# EAGLE library part CY8C26643-24AI (library cypress_micro)
The CY8C25xxx/26xxx family of Programmable System-on-Chip (PSoC) microcontrollers offers a fast core, Flash program memory and SRAM data memory with configurable analog and digital peripheral blocks in a range of convinient pinouts and memory size on one single chip.
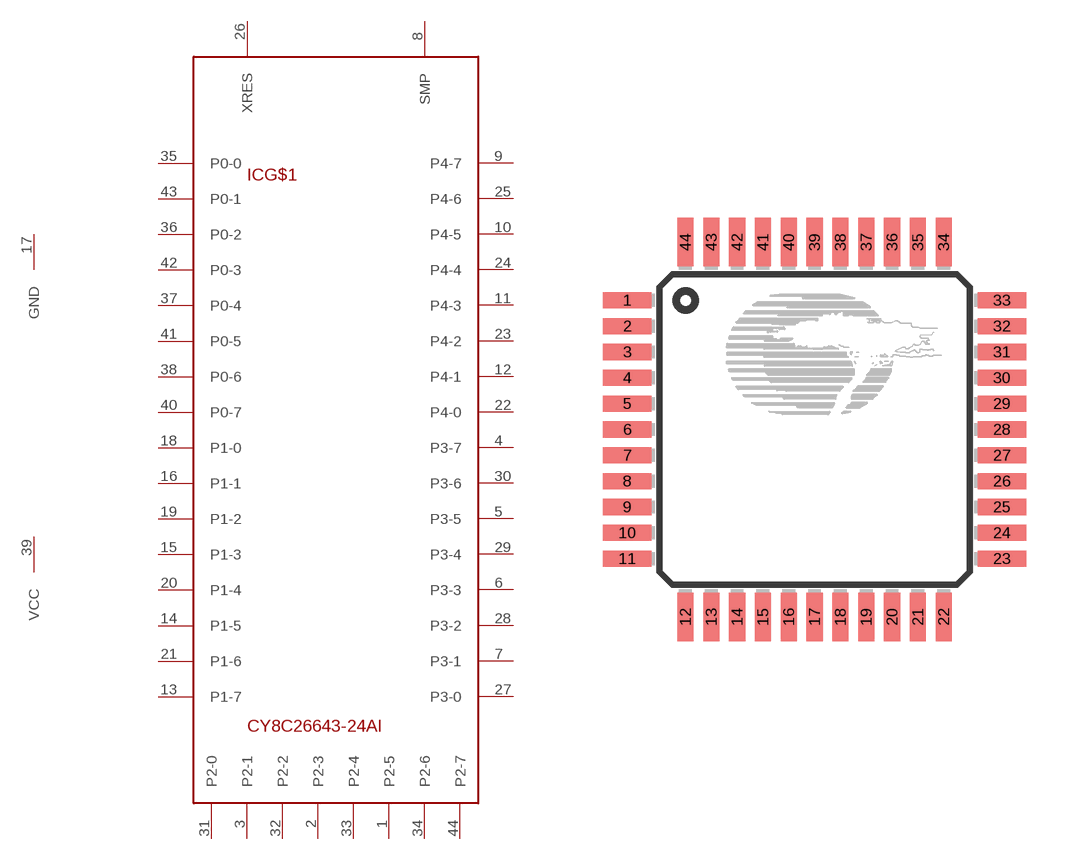
[diagram p4: symbol with the pads of TQFP44; footprint TQFP44]

Designator prefix IC; gates G$1=CY8C26643-AI G$2=GND G$3=VCC

## CY8C26643-24AI  [TQFP44]
1  G$1:P2-5
2  G$1:P2-3
3  G$1:P2-1
4  G$1:P3-7
5  G$1:P3-5
6  G$1:P3-3
7  G$1:P3-1
8  G$1:SMP  out
9  G$1:P4-7
10  G$1:P4-5
11  G$1:P4-3
12  G$1:P4-1
13  G$1:P1-7
14  G$1:P1-5
15  G$1:P1-3
16  G$1:P1-1
17  G$2:GND  pwr
18  G$1:P1-0
19  G$1:P1-2
20  G$1:P1-4
21  G$1:P1-6
22  G$1:P4-0
23  G$1:P4-2
24  G$1:P4-4
25  G$1:P4-6
26  G$1:XRES  in
27  G$1:P3-0
28  G$1:P3-2
29  G$1:P3-4
30  G$1:P3-6
31  G$1:P2-0
32  G$1:P2-2
33  G$1:P2-4
34  G$1:P2-6
35  G$1:P0-0
36  G$1:P0-2
37  G$1:P0-4
38  G$1:P0-6
39  G$3:VCC  pwr
40  G$1:P0-7
41  G$1:P0-5
42  G$1:P0-3
43  G$1:P0-1
44  G$1:P2-7

## Footprint TQFP44 (pad centres in mm)
Thin Quad Flat Package with 44 pins
smd 1.5 x 0.5: 1 -5.8,4; 2 -5.8,3.2; 3 -5.8,2.4; 4 -5.8,1.6; 5 -5.8,0.8; 6 -5.8,0; 7 -5.8,-0.8; 8 -5.8,-1.6; 9 -5.8,-2.4; 10 -5.8,-3.2; 11 -5.8,-4; 23 5.8,-4; 24 5.8,-3.2; 25 5.8,-2.4; 26 5.8,-1.6; 27 5.8,-0.8; 28 5.8,0; 29 5.8,0.8; 30 5.8,1.6; 31 5.8,2.4; 32 5.8,3.2; 33 5.8,4
smd 0.5 x 1.5: 12 -4,-5.8; 13 -3.2,-5.8; 14 -2.4,-5.8; 15 -1.6,-5.8; 16 -0.8,-5.8; 17 0,-5.8; 18 0.8,-5.8; 19 1.6,-5.8; 20 2.4,-5.8; 21 3.2,-5.8; 22 4,-5.8; 34 4,5.8; 35 3.2,5.8; 36 2.4,5.8; 37 1.6,5.8; 38 0.8,5.8; 39 0,5.8; 40 -0.8,5.8; 41 -1.6,5.8; 42 -2.4,5.8; 43 -3.2,5.8; 44 -4,5.8